# EAGLE library part BME280 (library Bjorn4)
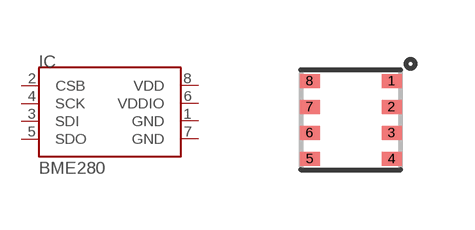
[diagram p0: symbol with the pads of LGA8_2,5MM; footprint LGA8_2,5MM]

Designator prefix IC

## BME280  [LGA8_2,5MM]
1  GND
2  CSB
3  SDI
4  SCK
5  SDO
6  VDDIO
7  GND
8  VDD

## Footprint LGA8_2,5MM (pad centres in mm)
smd 0.5 x 0.35: 1 1.025,0.975; 2 1.025,0.325; 3 1.025,-0.325; 4 1.025,-0.975; 5 -1.025,-0.975; 6 -1.025,-0.325; 7 -1.025,0.325; 8 -1.025,0.975